# Altium schematic symbol library SCH - SURGE SUPPRESSION - ST TCPP01-M12.SchLib: 1 symbol
Pins are listed as number, name and electrical type; pins without a type are passive.

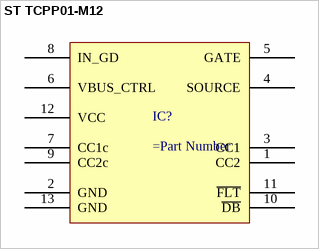
[diagram p0: symbol ST TCPP01-M12]

## ST TCPP01-M12
designator IC?
pins: 1 CC2, 2 GND, 3 CC1, 4 SOURCE, 5 GATE, 6 VBUS_CTRL, 7 CC1c, 8 IN_GD, 9 CC2c, 10 ~{DB}, 11 ~{FLT}, 12 VCC, 13 GND